# Altium footprint library semicon.PCBLIB: 115 footprints (part 6 of 8)
Each footprint in its own frame and in the unit in brackets; x right, y up, seen from the top. Pads: shape width x height; smd on the part's side, far side on the other; paste and mask are expansions set on the pad; w line width, h text height; cw(c..) or ccw(c..) is an arc to the next point about the centre after c.
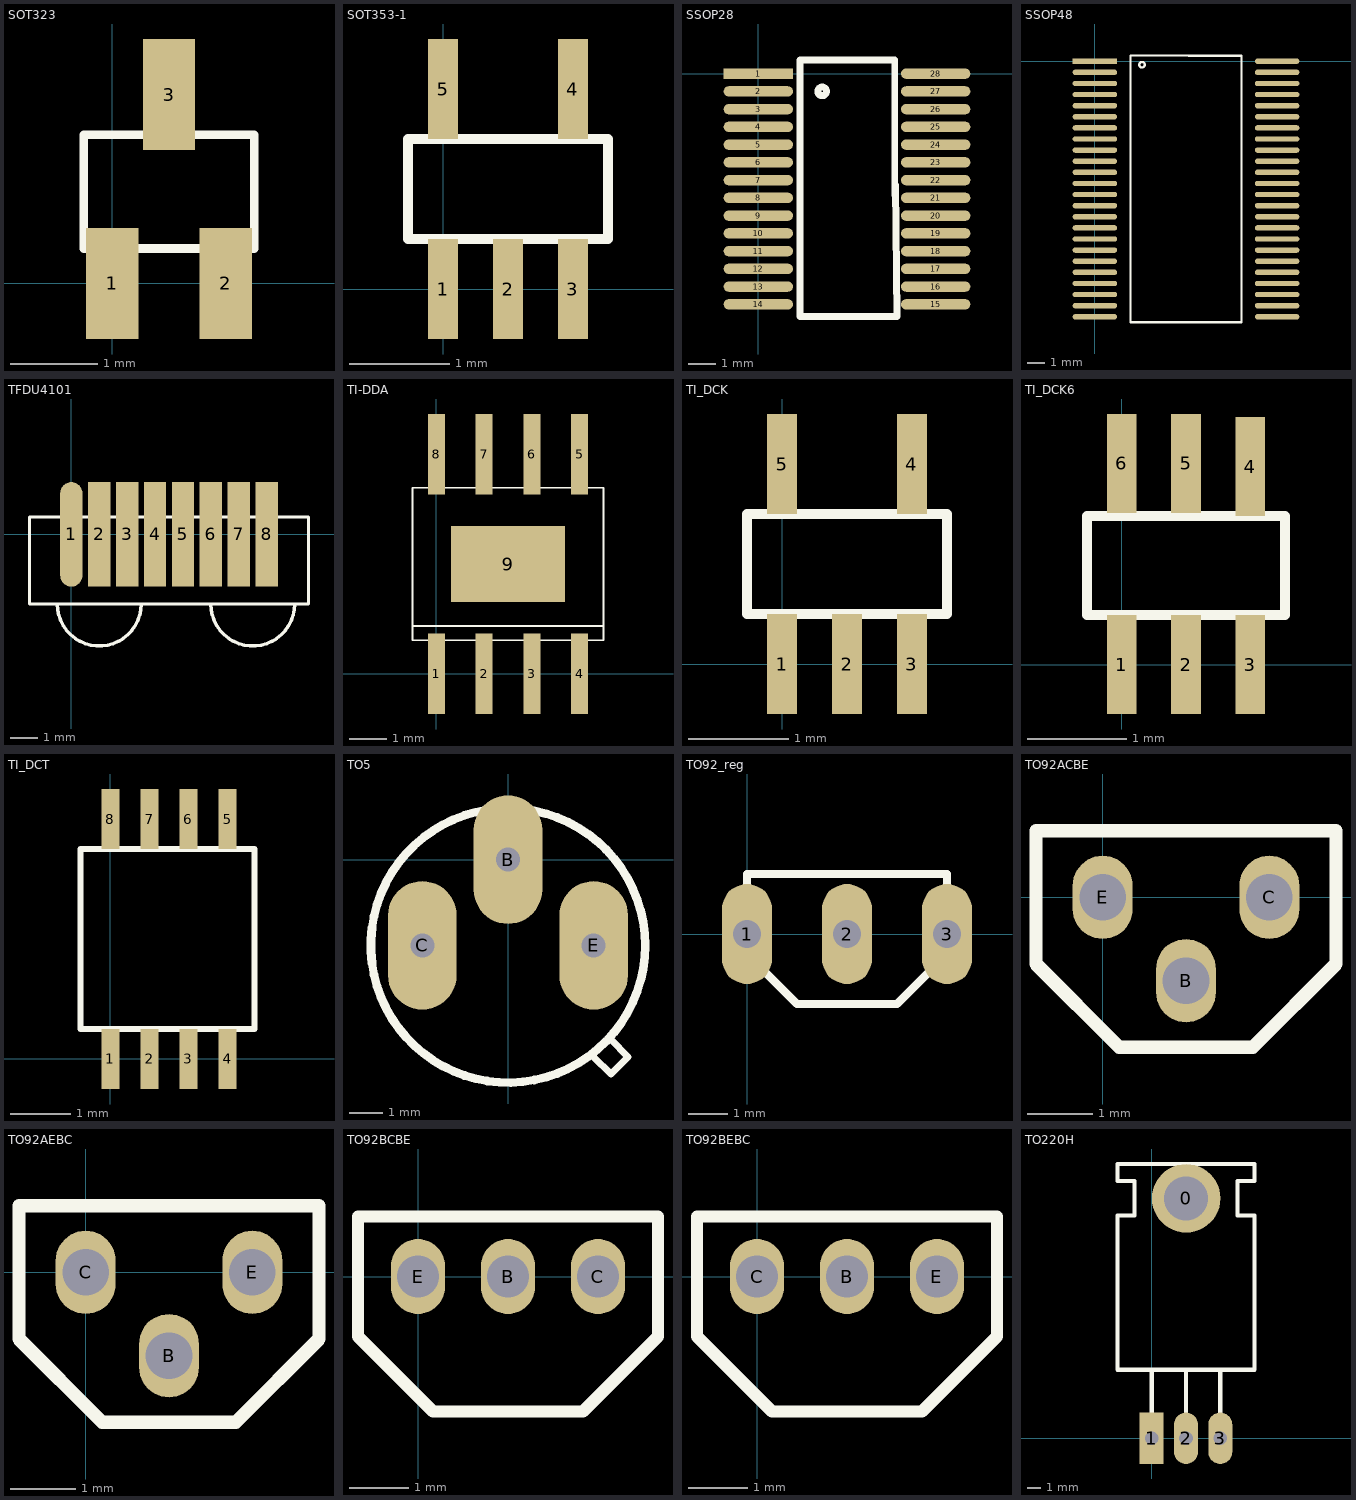
[diagram p5: the footprints below, top view; thin cyan lines are the x and y axes]

## SOT323 [mm]
pads (3):
  rect 0.6x1.27 smd: 1(0,0) 2(1.3,0) 3(0.65,2.159)
Top Overlay:
  lines w0.1: -0.325,0.4 -0.325,1.7 1.625,1.7 1.625,0.4 -0.325,0.4

## SOT353-1 [mm]
pads (5):
  rect 0.3x1 smd: 1(0,0) 2(0.65,0) 3(1.3,0) 4(1.3,2) 5(0,2)
Top Overlay:
  lines w0.1: -0.35,0.5 1.65,0.5 1.65,1.5 -0.35,1.5 -0.35,0.5

## SSOP28 [mm]
pads (28):
  rect 2.54x0.381 smd: 1(0,0)
  oval 2.54x0.381 smd: 2(0,-0.65) 3(0,-1.3) 4(0,-1.95) 5(0,-2.6) 6(0,-3.25) 7(0,-3.9) 8(0,-4.55) 9(0,-5.2) 10(0,-5.85) 11(0,-6.5) 12(0,-7.15) 13(0,-7.8) 14(0,-8.45) 15(6.5,-8.45) 16(6.5,-7.8) 17(6.5,-7.15) 18(6.5,-6.5) 19(6.5,-5.85) 20(6.5,-5.2) 21(6.5,-4.55) 22(6.5,-3.9) 23(6.5,-3.25) 24(6.5,-2.6) 25(6.5,-1.95) 26(6.5,-1.3) 27(6.5,-0.65) 28(6.5,0)
Top Overlay:
  circle w0.254: c2.341,-0.65 r0.159
  lines w0.254: 1.524,0.508 1.524,-8.89 5.08,-8.89 5.025,-4.081 ; 1.556,0.508 3.556,0.508 ; 3.222,0.508 5,0.508 5,-4.445

## SSOP48 [mil]
pads (48):
  rect 100x12 smd: 1(0,0)
  oval 100x12 smd: 2(0,-25) 3(0,-50) 4(0,-75) 5(0,-100) 6(0,-125) 7(0,-150) 8(0,-175) 9(0,-200) 10(0,-225) 11(0,-250) 12(0,-275) 13(0,-300) 14(0,-325) 15(0,-350) 16(0,-375) 17(0,-400) 18(0,-425) 19(0,-450) 20(0,-475) 21(0,-500) 22(0,-525) 23(0,-550) 24(0,-575) 25(410,-575) 26(410,-550) 27(410,-525) 28(410,-500) 29(410,-475) 30(410,-450) 31(410,-425) 32(410,-400) 33(410,-375) 34(410,-350) 35(410,-325) 36(410,-300) 37(410,-275) 38(410,-250) 39(410,-225) 40(410,-200) 41(410,-175) 42(410,-150) 43(410,-125) 44(410,-100) 45(410,-75) 46(410,-50) 47(410,-25) 48(410,0)
Top Overlay:
  circle w5: c105.95,-7.87 r6.25
  lines w5: 80,12.5 80,-587.5 330,-587.5 330,12.5 211.25,12.5 ; 80.07,12.8 212.6,12.8

## TFDU4101 [mil]
pads (8):
  oval 32x150 smd: 1(0,0)
  rect 32x150 smd: 2(40,0) 3(80,0) 4(120,0) 5(160,0) 6(200,0) 7(240,0) 8(280,0)
Top Overlay:
  lines w3.94: -60,-100 340,-100 ; -60,-100 -60,25 340,25 340,-100 ; -60,-100 340,-100
  lines w5: -20,-100 ccw(c40,-100) 100,-100 ; 200,-100 ccw(c260,-100) 320,-100

## TI-DDA [mm]
pads (9):
  rect 0.45x2.15 smd: 1(0,0) 2(1.27,0) 3(2.54,0) 4(3.81,0) 5(3.81,5.842) 6(2.54,5.842) 7(1.27,5.842) 8(0,5.842)
  rect 3.048x2.032 smd: 9(1.905,2.921)
Top Overlay:
  lines w0.05: -0.635,1.27 4.445,1.27 ; -0.635,0.889 4.445,0.889 4.445,4.953 -0.635,4.953 -0.635,0.889

## TI_DCK [mm]
pads (5):
  rect 0.3x1 smd: 1(0,0) 2(0.65,0) 3(1.3,0) 4(1.3,2) 5(0,2)
Top Overlay:
  lines w0.1: -0.35,0.5 1.65,0.5 1.65,1.5 -0.35,1.5 -0.35,0.5

## TI_DCK6 [mm]
pads (6):
  rect 0.3x1 smd: 1(0,0) 2(0.65,0) 3(1.3,0) 4(1.3,2) 5(0.65,2.032) 6(0,2.032)
Top Overlay:
  lines w0.1: -0.35,0.5 1.65,0.5 1.65,1.5 -0.35,1.5 -0.35,0.5

## TI_DCT [mm]
pads (8):
  rect 0.3x1 smd: 1(0,0) 2(0.65,0) 3(1.3,0) 4(1.95,0) 5(1.95,4) 6(1.3,4) 7(0.65,4) 8(0,4)
Top Overlay:
  lines w0.1: -0.5,0.5 -0.5,3.5 2.4,3.5 2.4,0.5 -0.5,0.5

## TO5 [mil]
pads (3):
  oval 80x150 hole 28 unplated: B(0,0) C(-100,-100) E(100,-100)
Top Overlay:
  circle w10: c0,-100 r160
  lines w8: 100,-230 120,-250 140,-230 120,-210

## TO92_reg [mil]
pads (3):
  oval 50x100 hole 28: 1(0,0) 2(100,0) 3(200,0)
Top Overlay:
  lines w8: 0,-20 50,-70 150,-70 200,-20 200,60 0,60 0,-20

## TO92ACBE [mil]
pads (3):
  oval 36x50 hole 28: B(50,-50) C(100,0) E(0,0)
Top Overlay:
  lines w8: -40,-40 10,-90 90,-90 140,-40 140,40 -40,40 -40,-40

## TO92AEBC [mil]
pads (3):
  oval 36x50 hole 28: B(50,-50) C(0,0) E(100,0)
Top Overlay:
  lines w8: -40,-40 10,-90 90,-90 140,-40 140,40 -40,40 -40,-40

## TO92BCBE [mil]
pads (3):
  oval 36x50 hole 28: B(60,0) C(120,0) E(0,0)
Top Overlay:
  lines w8: -40,-40 10,-90 110,-90 160,-40 160,40 -40,40 -40,-40

## TO92BEBC [mil]
pads (3):
  oval 36x50 hole 28: B(60,0) C(0,0) E(120,0)
Top Overlay:
  lines w8: -40,-40 -40,40 160,40 160,-40 110,-90 10,-90 -40,-40

## TO220H [mil]
pads (4):
  round 200 hole 128: 0(100.39,699.8)
  rect 70x150 hole 40: 1(0,0)
  oval 70x150 hole 40: 2(100,0) 3(200,0)
Top Overlay:
  lines w12: 0,60 0,200 ; 100,60 100,200 ; 200,60 200,200 ; -100,200 300,200 300,650 250,650 250,750 300,750 300,800 -100,800 -100,750 -50,750 -50,650 -100,650 -100,200